# Altium schematic symbol library BC856BS.Schlib: 1 symbol
Pins are listed as number, name and electrical type; pins without a type are passive.

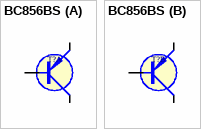
[diagram p0: symbol BC856BS]

## BC856BS
designator T?
SOT363 Dual p/p   65V 0.1A 100MHz 2.3pF (10V)
part A pins: 1 E (oe), 2 B, 6 C (oc)
part B pins: 3 C (oc), 4 E (oe), 5 B
1 alternate drawing of the same symbol